# EAGLE library part TRANS_FLYBACK_AUX_SINGLE_OUT_WITH_SHIELD (library __MyCommonLib1)
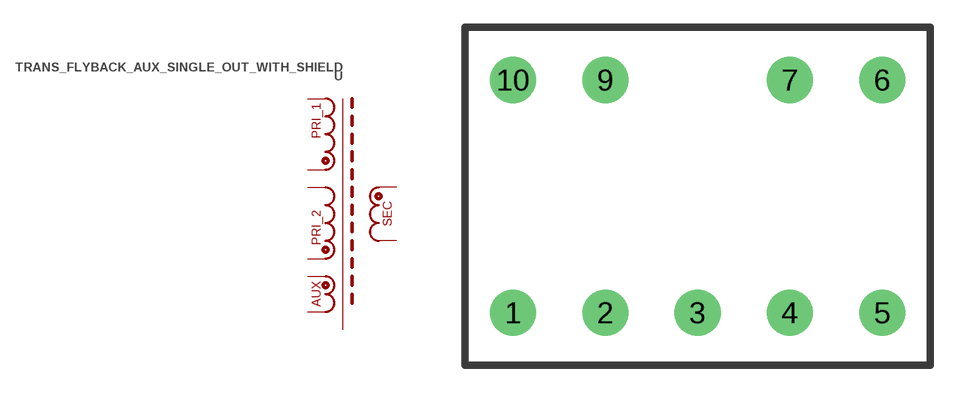
[diagram p19: symbol with the pads of TIO20_V2; footprint TIO20_V2]

Designator prefix -

## TRANS_FLYBACK_AUX_SINGLE_OUT_WITH_SHIELD(TIO20-V2)  [TIO20_V2]
1  PRI1_START
2  PRI1_END
3  SHIELD
4  AUX_START
5  AUX_END
6  SEC_END
7  SEC_START
9  PRI2_END
10  PRI2_START

## Footprint TIO20_V2 (pad centres in mm)
drill 1 pad 2.54: 1 -10.16,-6.4; 2 -5.08,-6.4; 3 0,-6.4; 4 5.08,-6.4; 5 10.16,-6.4; 6 10.16,6.4; 7 5.08,6.4; 9 -5.08,6.4; 10 -10.16,6.4